# Altium footprint library 555-indicator-PCBLIB.PcbLib: 2 footprints
Each footprint in its own frame and in the unit in brackets; x right, y up, seen from the top. Pads: shape width x height; smd on the part's side, far side on the other; paste and mask are expansions set on the pad; w line width, h text height; cw(c..) or ccw(c..) is an arc to the next point about the centre after c.
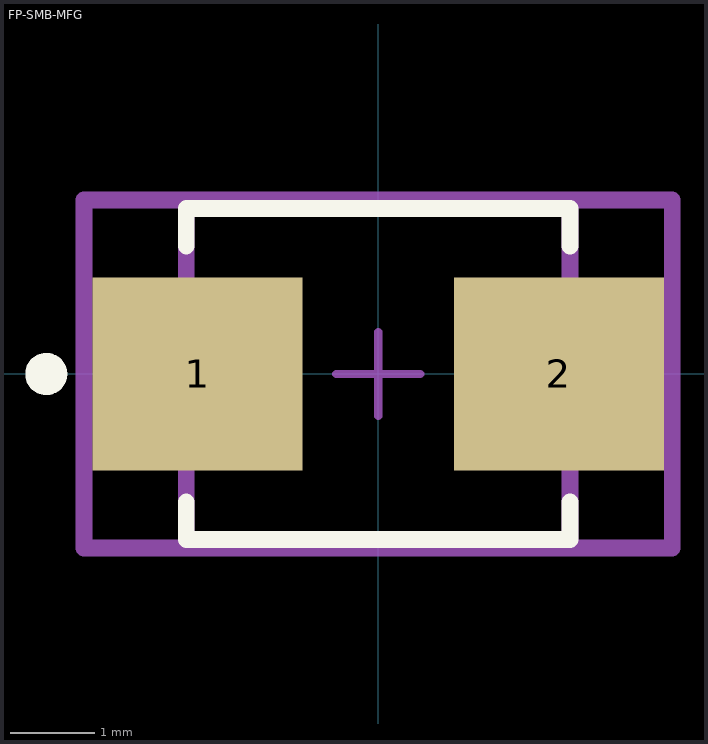
[diagram p0: the footprints below, top view; thin cyan lines are the x and y axes]

## FP-SMB-MFG [mm]
pads (2):
  rect 2.5x2.3 smd paste+0 mask+0: 1(-2.15,0) 2(2.15,0)
Top Overlay:
  circle w0.25: c-3.95,0 r0.125
  lines w0.2: -2.285,-1.525 -2.285,-1.97 2.285,-1.97 2.285,-1.525 ; -2.285,1.525 -2.285,1.97 2.285,1.97 2.285,1.525
Top 3D Body:
  lines w0.2: -2.285,-1.97 2.285,-1.97 2.285,1.97 -2.285,1.97 -2.285,-1.97
Top Courtyard:
  lines w0.2: -3.5,-2.07 3.5,-2.07 3.5,2.07 -3.5,2.07 -3.5,-2.07
Top Assembly:
  lines w0.2: -3.5,-2.07 3.5,-2.07 3.5,2.07 -3.5,2.07 -3.5,-2.07
  text ".Designator" at 0,0.188 h1
Top Component Center:
  lines w0.1: -0.5,0 0.5,0 ; 0,-0.5 0,0.5
3D body "Diode_Diodes_Inc_SMBJ24A-13-F_eec.STEP": height 0.25, standoff 0, extent -3.5,-2.07 3.5,2.07

## PCBComponent_1 [mm]